# Altium footprint library 8.2uH_MSS1260H-822MED.PcbLib: 1 footprints
Each footprint in its own frame and in the unit in brackets; x right, y up, seen from the top. Pads: shape width x height; smd on the part's side, far side on the other; paste and mask are expansions set on the pad; w line width, h text height; cw(c..) or ccw(c..) is an arc to the next point about the centre after c.
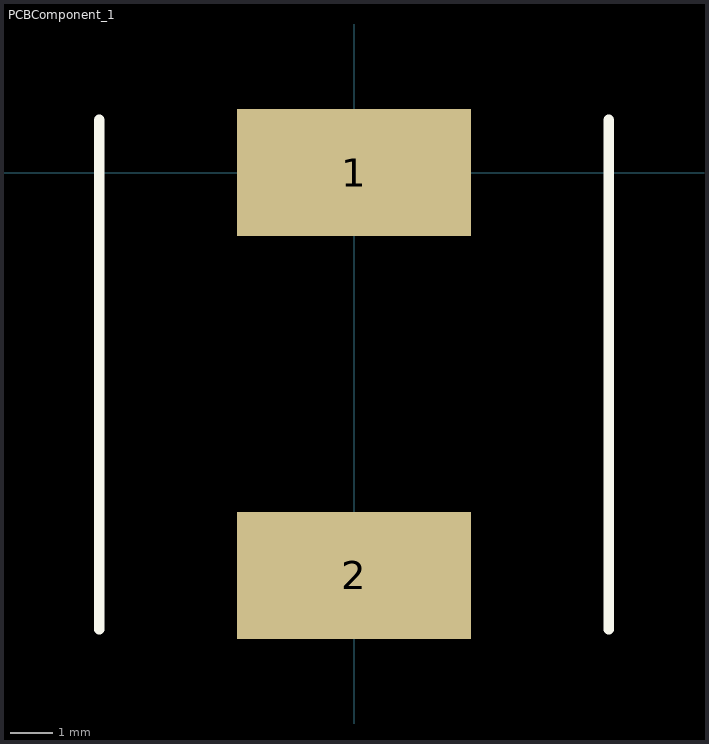
[diagram p0: the footprint, top view; thin cyan lines are the x and y axes]

## PCBComponent_1 [mil]
pads (2):
  rect 217x118 smd: 1(0,0) 2(0,-374)
Top Overlay:
  lines w10: -236.5,-424.02 -236.5,48.98 ; 236.5,-424.14 236.5,48.86